# EAGLE library part WFT0420CZ15_IF (library PartsForProto)
WF0420CZ15変換基板用I/F
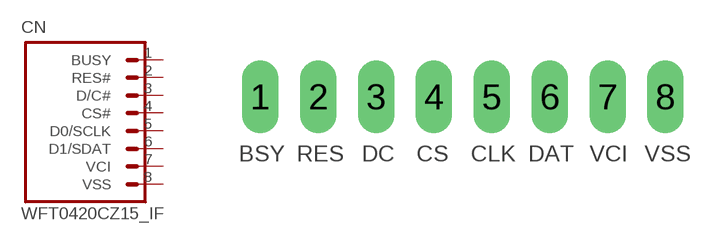
[diagram p19: symbol with the pads of WFT0420CZ15_IF_8PIN; footprint WFT0420CZ15_IF_8PIN]

Designator prefix CN

## WFT0420CZ15_IF  [WFT0420CZ15_IF_8PIN]
1  BUSY
2  RES#
3  D/C#
4  CS#
5  D0/SCLK
6  D1/SDAT
7  VCI  pas
8  VSS  pas

## Footprint WFT0420CZ15_IF_8PIN (pad centres in mm)
PIN HEADER
drill 1 pad 1.6 long: 1 0,0; 2 2.54,0; 3 5.08,0; 4 7.62,0; 5 10.16,0; 6 12.7,0; 7 15.24,0; 8 17.78,0